# Altium schematic symbol library WE-LHMI.SchLib: 193 symbols (part 2 of 4)
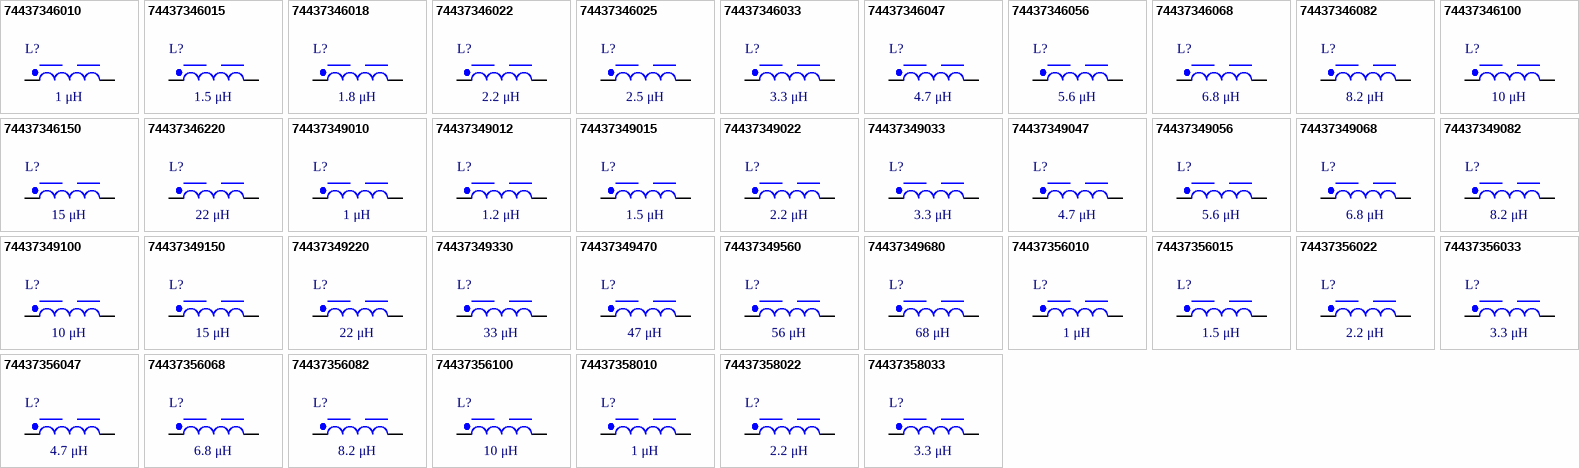
[diagram p5: symbols 74437346010 to 74437358033]

## 74437349015
designator L?, comment 1.5 μH
WE-LHMI SMT Power Inductor, size 7050, 1.5 μH, 11.3 A, 9 mΩ; Manufacturer Part Number: 74437349015; Manufacturer: Wurth Elektronik; Case/Size Code: 7050; DC Resistance Max: 9 mΩ; Performance Rated Current: 11.3 A; Saturation Current @ 10%: 9.7 A; Saturation Current @ 30%: 18.7 A; Self Resonant Frequency: 35 MHz; Category: Power Inductors; Match Code: WE-LHMI; ComponentLink1Description: Website Link; ComponentLink1URL: https://www.we-online.com/redexpert/article/74437349015?ad; ComponentLink2Description: Datasheet Link; ComponentLink2URL: https://www.we-online.com/redexpert/spec/74437349015?ad; Mount: Surface Mount; Min Operating Temperature: -40 °C; Max Operating Temperature: 125 °C; Packaging: Tape and Reel; Length: 7.3 mm; Width: 6.6 mm; Height: 4.8 mm; Inductance: 1.5 μH
footprint WE-LHMI_7050
simulation model 7050_74437349015_1.5u
pins: 1, 2

## 74437349022
designator L?, comment 2.2 μH
WE-LHMI SMT Power Inductor, size 7050, 2.2 μH, 9.9 A, 12 mΩ; Manufacturer Part Number: 74437349022; Manufacturer: Wurth Elektronik; Case/Size Code: 7050; DC Resistance Max: 12 mΩ; Performance Rated Current: 9.9 A; Saturation Current @ 10%: 10.5 A; Saturation Current @ 30%: 19.1 A; Self Resonant Frequency: 30 MHz; Category: Power Inductors; Match Code: WE-LHMI; ComponentLink1Description: Website Link; ComponentLink1URL: https://www.we-online.com/redexpert/article/74437349022?ad; ComponentLink2Description: Datasheet Link; ComponentLink2URL: https://www.we-online.com/redexpert/spec/74437349022?ad; Mount: Surface Mount; Min Operating Temperature: -40 °C; Max Operating Temperature: 125 °C; Packaging: Tape and Reel; Length: 7.3 mm; Width: 6.6 mm; Height: 4.8 mm; Inductance: 2.2 μH
footprint WE-LHMI_7050
simulation model 7050_74437349022_2.2u
pins: 1, 2

## 74437349033
designator L?, comment 3.3 μH
WE-LHMI SMT Power Inductor, size 7050, 3.3 μH, 7.5 A, 20.9 mΩ; Manufacturer Part Number: 74437349033; Manufacturer: Wurth Elektronik; Case/Size Code: 7050; DC Resistance Max: 20.9 mΩ; Performance Rated Current: 7.5 A; Saturation Current @ 10%: 7.9 A; Saturation Current @ 30%: 15.1 A; Self Resonant Frequency: 26 MHz; Category: Power Inductors; Match Code: WE-LHMI; ComponentLink1Description: Website Link; ComponentLink1URL: https://www.we-online.com/redexpert/article/74437349033?ad; ComponentLink2Description: Datasheet Link; ComponentLink2URL: https://www.we-online.com/redexpert/spec/74437349033?ad; Mount: Surface Mount; Min Operating Temperature: -40 °C; Max Operating Temperature: 125 °C; Packaging: Tape and Reel; Length: 7.3 mm; Width: 6.6 mm; Height: 4.8 mm; Inductance: 3.3 μH
footprint WE-LHMI_7050
simulation model 7050_74437349033_3.3u
pins: 1, 2

## 74437349047
designator L?, comment 4.7 μH
WE-LHMI SMT Power Inductor, size 7050, 4.7 μH, 6.2 A, 30.8 mΩ; Manufacturer Part Number: 74437349047; Manufacturer: Wurth Elektronik; Case/Size Code: 7050; DC Resistance Max: 30.8 mΩ; Performance Rated Current: 6.2 A; Saturation Current @ 10%: 7.5 A; Saturation Current @ 30%: 14.6 A; Self Resonant Frequency: 24 MHz; Category: Power Inductors; Match Code: WE-LHMI; ComponentLink1Description: Website Link; ComponentLink1URL: https://www.we-online.com/redexpert/article/74437349047?ad; ComponentLink2Description: Datasheet Link; ComponentLink2URL: https://www.we-online.com/redexpert/spec/74437349047?ad; Mount: Surface Mount; Min Operating Temperature: -40 °C; Max Operating Temperature: 125 °C; Packaging: Tape and Reel; Length: 7.3 mm; Width: 6.6 mm; Height: 4.8 mm; Inductance: 4.7 μH
footprint WE-LHMI_7050
simulation model 7050_74437349047_4.7u
pins: 1, 2

## 74437349056
designator L?, comment 5.6 μH
WE-LHMI SMT Power Inductor, size 7050, 5.6 μH, 4.9 A, 49 mΩ; Manufacturer Part Number: 74437349056; Manufacturer: Wurth Elektronik; Case/Size Code: 7050; DC Resistance Max: 49 mΩ; Performance Rated Current: 4.9 A; Saturation Current @ 10%: 6.6 A; Saturation Current @ 30%: 16.5 A; Self Resonant Frequency: 17 MHz; Category: Power Inductors; Match Code: WE-LHMI; ComponentLink1Description: Website Link; ComponentLink1URL: https://www.we-online.com/redexpert/article/74437349056?ad; ComponentLink2Description: Datasheet Link; ComponentLink2URL: https://www.we-online.com/redexpert/spec/74437349056?ad; Mount: Surface Mount; Min Operating Temperature: -40 °C; Max Operating Temperature: 125 °C; Packaging: Tape and Reel; Length: 7.3 mm; Width: 6.6 mm; Height: 4.8 mm; Inductance: 5.6 μH
footprint WE-LHMI_7050
simulation model 7050_74437349056_5.6u
pins: 1, 2

## 74437349068
designator L?, comment 6.8 μH
WE-LHMI SMT Power Inductor, size 7050, 6.8 μH, 4.8 A, 51.5 mΩ; Manufacturer Part Number: 74437349068; Manufacturer: Wurth Elektronik; Case/Size Code: 7050; DC Resistance Max: 51.5 mΩ; Performance Rated Current: 4.8 A; Saturation Current @ 10%: 6.3 A; Saturation Current @ 30%: 13.1 A; Self Resonant Frequency: 16 MHz; Category: Power Inductors; Match Code: WE-LHMI; ComponentLink1Description: Website Link; ComponentLink1URL: https://www.we-online.com/redexpert/article/74437349068?ad; ComponentLink2Description: Datasheet Link; ComponentLink2URL: https://www.we-online.com/redexpert/spec/74437349068?ad; Mount: Surface Mount; Min Operating Temperature: -40 °C; Max Operating Temperature: 125 °C; Packaging: Tape and Reel; Length: 7.3 mm; Width: 6.6 mm; Height: 4.8 mm; Inductance: 6.8 μH
footprint WE-LHMI_7050
simulation model 7050_74437349068_6.8u
pins: 1, 2

## 74437349082
designator L?, comment 8.2 μH
WE-LHMI SMT Power Inductor, size 7050, 8.2 μH, 4.35 A, 63 mΩ; Manufacturer Part Number: 74437349082; Manufacturer: Wurth Elektronik; Case/Size Code: 7050; DC Resistance Max: 63 mΩ; Performance Rated Current: 4.35 A; Saturation Current @ 10%: 6 A; Saturation Current @ 30%: 12.2 A; Self Resonant Frequency: 15 MHz; Category: Power Inductors; Match Code: WE-LHMI; ComponentLink1Description: Website Link; ComponentLink1URL: https://www.we-online.com/redexpert/article/74437349082?ad; ComponentLink2Description: Datasheet Link; ComponentLink2URL: https://www.we-online.com/redexpert/spec/74437349082?ad; Mount: Surface Mount; Min Operating Temperature: -40 °C; Max Operating Temperature: 125 °C; Packaging: Tape and Reel; Length: 7.3 mm; Width: 6.6 mm; Height: 4.8 mm; Inductance: 8.2 μH
footprint WE-LHMI_7050
simulation model 7050_74437349082_8.2u
pins: 1, 2

## 74437349100
designator L?, comment 10 μH
WE-LHMI SMT Power Inductor, size 7050, 10 μH, 4.05 A, 69 mΩ; Manufacturer Part Number: 74437349100; Manufacturer: Wurth Elektronik; Case/Size Code: 7050; DC Resistance Max: 69 mΩ; Performance Rated Current: 4.05 A; Saturation Current @ 10%: 5.6 A; Saturation Current @ 30%: 10.5 A; Self Resonant Frequency: 12 MHz; Category: Power Inductors; Match Code: WE-LHMI; ComponentLink1Description: Website Link; ComponentLink1URL: https://www.we-online.com/redexpert/article/74437349100?ad; ComponentLink2Description: Datasheet Link; ComponentLink2URL: https://www.we-online.com/redexpert/spec/74437349100?ad; Mount: Surface Mount; Min Operating Temperature: -40 °C; Max Operating Temperature: 125 °C; Packaging: Tape and Reel; Length: 7.3 mm; Width: 6.6 mm; Height: 4.8 mm; Inductance: 10 μH
footprint WE-LHMI_7050
simulation model 7050_74437349100_10u
pins: 1, 2

## 74437349150
designator L?, comment 15 μH
WE-LHMI SMT Power Inductor, size 7050, 15 μH, 3.6 A, 92 mΩ; Manufacturer Part Number: 74437349150; Manufacturer: Wurth Elektronik; Case/Size Code: 7050; DC Resistance Max: 92 mΩ; Performance Rated Current: 3.6 A; Saturation Current @ 10%: 3.5 A; Saturation Current @ 30%: 7.2 A; Self Resonant Frequency: 10 MHz; Category: Power Inductors; Match Code: WE-LHMI; ComponentLink1Description: Website Link; ComponentLink1URL: https://www.we-online.com/redexpert/article/74437349150?ad; ComponentLink2Description: Datasheet Link; ComponentLink2URL: https://www.we-online.com/redexpert/spec/74437349150?ad; Mount: Surface Mount; Min Operating Temperature: -40 °C; Max Operating Temperature: 125 °C; Packaging: Tape and Reel; Length: 7.3 mm; Width: 6.6 mm; Height: 4.8 mm; Inductance: 15 μH
footprint WE-LHMI_7050
simulation model 7050_74437349150_15u
pins: 1, 2

## 74437349220
designator L?, comment 22 μH
WE-LHMI SMT Power Inductor, size 7050, 22 μH, 2.75 A, 170 mΩ; Manufacturer Part Number: 74437349220; Manufacturer: Wurth Elektronik; Case/Size Code: 7050; DC Resistance Max: 170 mΩ; Performance Rated Current: 2.75 A; Saturation Current @ 10%: 4.15 A; Saturation Current @ 30%: 8.5 A; Self Resonant Frequency: 8 MHz; Category: Power Inductors; Match Code: WE-LHMI; ComponentLink1Description: Website Link; ComponentLink1URL: https://www.we-online.com/redexpert/article/74437349220?ad; ComponentLink2Description: Datasheet Link; ComponentLink2URL: https://www.we-online.com/redexpert/spec/74437349220?ad; Mount: Surface Mount; Min Operating Temperature: -40 °C; Max Operating Temperature: 125 °C; Packaging: Tape and Reel; Length: 7.3 mm; Width: 6.6 mm; Height: 4.8 mm; Inductance: 22 μH
footprint WE-LHMI_7050
simulation model 7050_74437349220_22u
pins: 1, 2

## 74437349330
designator L?, comment 33 μH
WE-LHMI SMT Power Inductor, size 7050, 33 μH, 2.45 A, 200 mΩ; Manufacturer Part Number: 74437349330; Manufacturer: Wurth Elektronik; Case/Size Code: 7050; DC Resistance Max: 200 mΩ; Performance Rated Current: 2.45 A; Saturation Current @ 10%: 2.6 A; Saturation Current @ 30%: 4.75 A; Self Resonant Frequency: 7.5 MHz; Category: Power Inductors; Match Code: WE-LHMI; ComponentLink1Description: Website Link; ComponentLink1URL: https://www.we-online.com/redexpert/article/74437349330?ad; ComponentLink2Description: Datasheet Link; ComponentLink2URL: https://www.we-online.com/redexpert/spec/74437349330?ad; Mount: Surface Mount; Min Operating Temperature: -40 °C; Max Operating Temperature: 125 °C; Packaging: Tape and Reel; Length: 7.3 mm; Width: 6.6 mm; Height: 4.8 mm; Inductance: 33 μH
footprint WE-LHMI_7050
simulation model 7050_74437349330_33u
pins: 1, 2

## 74437349470
designator L?, comment 47 μH
WE-LHMI SMT Power Inductor, size 7050, 47 μH, 1.9 A, 330 mΩ; Manufacturer Part Number: 74437349470; Manufacturer: Wurth Elektronik; Case/Size Code: 7050; DC Resistance Max: 330 mΩ; Performance Rated Current: 1.9 A; Saturation Current @ 10%: 1.8 A; Saturation Current @ 30%: 3.4 A; Self Resonant Frequency: 7.3 MHz; Category: Power Inductors; Match Code: WE-LHMI; ComponentLink1Description: Website Link; ComponentLink1URL: https://www.we-online.com/redexpert/article/74437349470?ad; ComponentLink2Description: Datasheet Link; ComponentLink2URL: https://www.we-online.com/redexpert/spec/74437349470?ad; Mount: Surface Mount; Min Operating Temperature: -40 °C; Max Operating Temperature: 125 °C; Packaging: Tape and Reel; Length: 7.3 mm; Width: 6.6 mm; Height: 4.8 mm; Inductance: 47 μH
footprint WE-LHMI_7050
simulation model 7050_74437349470_47u
pins: 1, 2

## 74437349560
designator L?, comment 56 μH
WE-LHMI SMT Power Inductor, size 7050, 56 μH, 1.75 A, 396 mΩ; Manufacturer Part Number: 74437349560; Manufacturer: Wurth Elektronik; Case/Size Code: 7050; DC Resistance Max: 396 mΩ; Performance Rated Current: 1.75 A; Saturation Current @ 10%: 1.4 A; Saturation Current @ 30%: 2.7 A; Self Resonant Frequency: 6 MHz; Category: Power Inductors; Match Code: WE-LHMI; ComponentLink1Description: Website Link; ComponentLink1URL: https://www.we-online.com/redexpert/article/74437349560?ad; ComponentLink2Description: Datasheet Link; ComponentLink2URL: https://www.we-online.com/redexpert/spec/74437349560?ad; Mount: Surface Mount; Min Operating Temperature: -40 °C; Max Operating Temperature: 125 °C; Packaging: Tape and Reel; Length: 7.3 mm; Width: 6.6 mm; Height: 4.8 mm; Inductance: 56 μH
footprint WE-LHMI_7050
simulation model 7050_74437349560_56u
pins: 1, 2

## 74437349680
designator L?, comment 68 μH
WE-LHMI SMT Power Inductor, size 7050, 68 μH, 1.65 A, 445 mΩ; Manufacturer Part Number: 74437349680; Manufacturer: Wurth Elektronik; Case/Size Code: 7050; DC Resistance Max: 445 mΩ; Performance Rated Current: 1.65 A; Saturation Current @ 10%: 1.45 A; Saturation Current @ 30%: 3.8 A; Self Resonant Frequency: 3.5 MHz; Category: Power Inductors; Match Code: WE-LHMI; ComponentLink1Description: Website Link; ComponentLink1URL: https://www.we-online.com/redexpert/article/74437349680?ad; ComponentLink2Description: Datasheet Link; ComponentLink2URL: https://www.we-online.com/redexpert/spec/74437349680?ad; Mount: Surface Mount; Min Operating Temperature: -40 °C; Max Operating Temperature: 125 °C; Packaging: Tape and Reel; Length: 7.3 mm; Width: 6.6 mm; Height: 4.8 mm; Inductance: 68 μH
footprint WE-LHMI_7050
simulation model 7050_74437349680_68u
pins: 1, 2

## 74437356010
designator L?, comment 1 μH
WE-LHMI SMT Power Inductor, size 8030, 1 μH, 15.7 A, 8.35 mΩ; Manufacturer Part Number: 74437356010; Manufacturer: Wurth Elektronik; Case/Size Code: 8030; DC Resistance Max: 8.35 mΩ; Performance Rated Current: 15.7 A; Saturation Current @ 10%: 15.8 A; Saturation Current @ 30%: 34.2 A; Self Resonant Frequency: 44 MHz; Category: Power Inductors; Match Code: WE-LHMI; ComponentLink1Description: Website Link; ComponentLink1URL: https://www.we-online.com/redexpert/article/74437356010?ad; ComponentLink2Description: Datasheet Link; ComponentLink2URL: https://www.we-online.com/redexpert/spec/74437356010?ad; Mount: Surface Mount; Min Operating Temperature: -40 °C; Max Operating Temperature: 125 °C; Packaging: Tape and Reel; Length: 9.7 mm; Width: 8.5 mm; Height: 3 mm; Inductance: 1 μH
footprint WE-LHMI_8030
simulation model 8030_74437356010_1u
pins: 1, 2

## 74437356015
designator L?, comment 1.5 μH
WE-LHMI SMT Power Inductor, size 8030, 1.5 μH, 12.2 A, 13.3 mΩ; Manufacturer Part Number: 74437356015; Manufacturer: Wurth Elektronik; Case/Size Code: 8030; DC Resistance Max: 13.3 mΩ; Performance Rated Current: 12.2 A; Saturation Current @ 10%: 13.5 A; Saturation Current @ 30%: 27.2 A; Self Resonant Frequency: 32 MHz; Category: Power Inductors; Match Code: WE-LHMI; ComponentLink1Description: Website Link; ComponentLink1URL: https://www.we-online.com/redexpert/article/74437356015?ad; ComponentLink2Description: Datasheet Link; ComponentLink2URL: https://www.we-online.com/redexpert/spec/74437356015?ad; Mount: Surface Mount; Min Operating Temperature: -40 °C; Max Operating Temperature: 125 °C; Packaging: Tape and Reel; Length: 9.7 mm; Width: 8.5 mm; Height: 3 mm; Inductance: 1.5 μH
footprint WE-LHMI_8030
simulation model 8030_74437356015_1.5u
pins: 1, 2

## 74437356022
designator L?, comment 2.2 μH
WE-LHMI SMT Power Inductor, size 8030, 2.2 μH, 9.5 A, 20.3 mΩ; Manufacturer Part Number: 74437356022; Manufacturer: Wurth Elektronik; Case/Size Code: 8030; DC Resistance Max: 20.3 mΩ; Performance Rated Current: 9.5 A; Saturation Current @ 10%: 10 A; Saturation Current @ 30%: 19.6 A; Self Resonant Frequency: 24 MHz; Category: Power Inductors; Match Code: WE-LHMI; ComponentLink1Description: Website Link; ComponentLink1URL: https://www.we-online.com/redexpert/article/74437356022?ad; ComponentLink2Description: Datasheet Link; ComponentLink2URL: https://www.we-online.com/redexpert/spec/74437356022?ad; Mount: Surface Mount; Min Operating Temperature: -40 °C; Max Operating Temperature: 125 °C; Packaging: Tape and Reel; Length: 9.7 mm; Width: 8.5 mm; Height: 3 mm; Inductance: 2.2 μH
footprint WE-LHMI_8030
simulation model 8030_74437356022_2.2u
pins: 1, 2

## 74437356033
designator L?, comment 3.3 μH
WE-LHMI SMT Power Inductor, size 8030, 3.3 μH, 8 A, 27.4 mΩ; Manufacturer Part Number: 74437356033; Manufacturer: Wurth Elektronik; Case/Size Code: 8030; DC Resistance Max: 27.4 mΩ; Performance Rated Current: 8 A; Saturation Current @ 10%: 8.8 A; Saturation Current @ 30%: 16.1 A; Self Resonant Frequency: 19 MHz; Category: Power Inductors; Match Code: WE-LHMI; ComponentLink1Description: Website Link; ComponentLink1URL: https://www.we-online.com/redexpert/article/74437356033?ad; ComponentLink2Description: Datasheet Link; ComponentLink2URL: https://www.we-online.com/redexpert/spec/74437356033?ad; Mount: Surface Mount; Min Operating Temperature: -40 °C; Max Operating Temperature: 125 °C; Packaging: Tape and Reel; Length: 9.7 mm; Width: 8.5 mm; Height: 3 mm; Inductance: 3.3 μH
footprint WE-LHMI_8030
simulation model 8030_74437356033_3.3u
pins: 1, 2

## 74437356047
designator L?, comment 4.7 μH
WE-LHMI SMT Power Inductor, size 8030, 4.7 μH, 6.7 A, 34.2 mΩ; Manufacturer Part Number: 74437356047; Manufacturer: Wurth Elektronik; Case/Size Code: 8030; DC Resistance Max: 34.2 mΩ; Performance Rated Current: 6.7 A; Saturation Current @ 10%: 8.1 A; Saturation Current @ 30%: 15.2 A; Self Resonant Frequency: 16 MHz; Category: Power Inductors; Match Code: WE-LHMI; ComponentLink1Description: Website Link; ComponentLink1URL: https://www.we-online.com/redexpert/article/74437356047?ad; ComponentLink2Description: Datasheet Link; ComponentLink2URL: https://www.we-online.com/redexpert/spec/74437356047?ad; Mount: Surface Mount; Min Operating Temperature: -40 °C; Max Operating Temperature: 125 °C; Packaging: Tape and Reel; Length: 9.7 mm; Width: 8.5 mm; Height: 3 mm; Inductance: 4.7 μH
footprint WE-LHMI_8030
simulation model 8030_74437356047_4.7u
pins: 1, 2

## 74437356068
designator L?, comment 6.8 μH
WE-LHMI SMT Power Inductor, size 8030, 6.8 μH, 5.8 A, 49.3 mΩ; Manufacturer Part Number: 74437356068; Manufacturer: Wurth Elektronik; Case/Size Code: 8030; DC Resistance Max: 49.3 mΩ; Performance Rated Current: 5.8 A; Saturation Current @ 10%: 6.9 A; Saturation Current @ 30%: 14.2 A; Self Resonant Frequency: 14 MHz; Category: Power Inductors; Match Code: WE-LHMI; ComponentLink1Description: Website Link; ComponentLink1URL: https://www.we-online.com/redexpert/article/74437356068?ad; ComponentLink2Description: Datasheet Link; ComponentLink2URL: https://www.we-online.com/redexpert/spec/74437356068?ad; Mount: Surface Mount; Min Operating Temperature: -40 °C; Max Operating Temperature: 125 °C; Packaging: Tape and Reel; Length: 9.7 mm; Width: 8.5 mm; Height: 3 mm; Inductance: 6.8 μH
footprint WE-LHMI_8030
simulation model 8030_74437356068_6.8u
pins: 1, 2

## 74437356082
designator L?, comment 8.2 μH
WE-LHMI SMT Power Inductor, size 8030, 8.2 μH, 4.6 A, 59.3 mΩ; Manufacturer Part Number: 74437356082; Manufacturer: Wurth Elektronik; Case/Size Code: 8030; DC Resistance Max: 59.3 mΩ; Performance Rated Current: 4.6 A; Saturation Current @ 10%: 6.3 A; Saturation Current @ 30%: 14 A; Self Resonant Frequency: 11 MHz; Category: Power Inductors; Match Code: WE-LHMI; ComponentLink1Description: Website Link; ComponentLink1URL: https://www.we-online.com/redexpert/article/74437356082?ad; ComponentLink2Description: Datasheet Link; ComponentLink2URL: https://www.we-online.com/redexpert/spec/74437356082?ad; Mount: Surface Mount; Min Operating Temperature: -40 °C; Max Operating Temperature: 125 °C; Packaging: Tape and Reel; Length: 9.7 mm; Width: 8.5 mm; Height: 3 mm; Inductance: 8.2 μH
footprint WE-LHMI_8030
simulation model 8030_74437356082_8.2u
pins: 1, 2

## 74437356100
designator L?, comment 10 μH
WE-LHMI SMT Power Inductor, size 8030, 10 μH, 4.45 A, 71.2 mΩ; Manufacturer Part Number: 74437356100; Manufacturer: Wurth Elektronik; Case/Size Code: 8030; DC Resistance Max: 71.2 mΩ; Performance Rated Current: 4.45 A; Saturation Current @ 10%: 6.2 A; Saturation Current @ 30%: 13.4 A; Self Resonant Frequency: 10 MHz; Category: Power Inductors; Match Code: WE-LHMI; ComponentLink1Description: Website Link; ComponentLink1URL: https://www.we-online.com/redexpert/article/74437356100?ad; ComponentLink2Description: Datasheet Link; ComponentLink2URL: https://www.we-online.com/redexpert/spec/74437356100?ad; Mount: Surface Mount; Min Operating Temperature: -40 °C; Max Operating Temperature: 125 °C; Packaging: Tape and Reel; Length: 9.7 mm; Width: 8.5 mm; Height: 3 mm; Inductance: 10 μH
footprint WE-LHMI_8030
simulation model 8030_74437356100_10u
pins: 1, 2

## 74437358010
designator L?, comment 1 μH
WE-LHMI SMT Power Inductor, size 8040, 1 μH, 18.6 A, 4.63 mΩ; Manufacturer Part Number: 74437358010; Manufacturer: Wurth Elektronik; Case/Size Code: 8040; DC Resistance Max: 4.63 mΩ; Performance Rated Current: 18.6 A; Saturation Current @ 10%: 20.6 A; Saturation Current @ 30%: 43.1 A; Self Resonant Frequency: 42 MHz; Category: Power Inductors; Match Code: WE-LHMI; ComponentLink1Description: Website Link; ComponentLink1URL: https://www.we-online.com/redexpert/article/74437358010?ad; ComponentLink2Description: Datasheet Link; ComponentLink2URL: https://www.we-online.com/redexpert/spec/74437358010?ad; Mount: Surface Mount; Min Operating Temperature: -40 °C; Max Operating Temperature: 125 °C; Packaging: Tape and Reel; Length: 9.7 mm; Width: 8.5 mm; Height: 4 mm; Inductance: 1 μH
footprint WE-LHMI_8040
simulation model 8040_74437358010_1u
pins: 1, 2

## 74437358022
designator L?, comment 2.2 μH
WE-LHMI SMT Power Inductor, size 8040, 2.2 μH, 12 A, 9.41 mΩ; Manufacturer Part Number: 74437358022; Manufacturer: Wurth Elektronik; Case/Size Code: 8040; DC Resistance Max: 9.41 mΩ; Performance Rated Current: 12 A; Saturation Current @ 10%: 17.2 A; Saturation Current @ 30%: 36.8 A; Self Resonant Frequency: 29 MHz; Category: Power Inductors; Match Code: WE-LHMI; ComponentLink1Description: Website Link; ComponentLink1URL: https://www.we-online.com/redexpert/article/74437358022?ad; ComponentLink2Description: Datasheet Link; ComponentLink2URL: https://www.we-online.com/redexpert/spec/74437358022?ad; Mount: Surface Mount; Min Operating Temperature: -40 °C; Max Operating Temperature: 125 °C; Packaging: Tape and Reel; Length: 9.7 mm; Width: 8.5 mm; Height: 4 mm; Inductance: 2.2 μH
footprint WE-LHMI_8040
simulation model 8040_74437358022_2.2u
pins: 1, 2

## 74437358033
designator L?, comment 3.3 μH
WE-LHMI SMT Power Inductor, size 8040, 3.3 μH, 10 A, 14.9 mΩ; Manufacturer Part Number: 74437358033; Manufacturer: Wurth Elektronik; Case/Size Code: 8040; DC Resistance Max: 14.9 mΩ; Performance Rated Current: 10 A; Saturation Current @ 10%: 12.4 A; Saturation Current @ 30%: 27 A; Self Resonant Frequency: 20 MHz; Category: Power Inductors; Match Code: WE-LHMI; ComponentLink1Description: Website Link; ComponentLink1URL: https://www.we-online.com/redexpert/article/74437358033?ad; ComponentLink2Description: Datasheet Link; ComponentLink2URL: https://www.we-online.com/redexpert/spec/74437358033?ad; Mount: Surface Mount; Min Operating Temperature: -40 °C; Max Operating Temperature: 125 °C; Packaging: Tape and Reel; Length: 9.7 mm; Width: 8.5 mm; Height: 4 mm; Inductance: 3.3 μH
footprint WE-LHMI_8040
simulation model 8040_74437358033_3.3u
pins: 1, 2

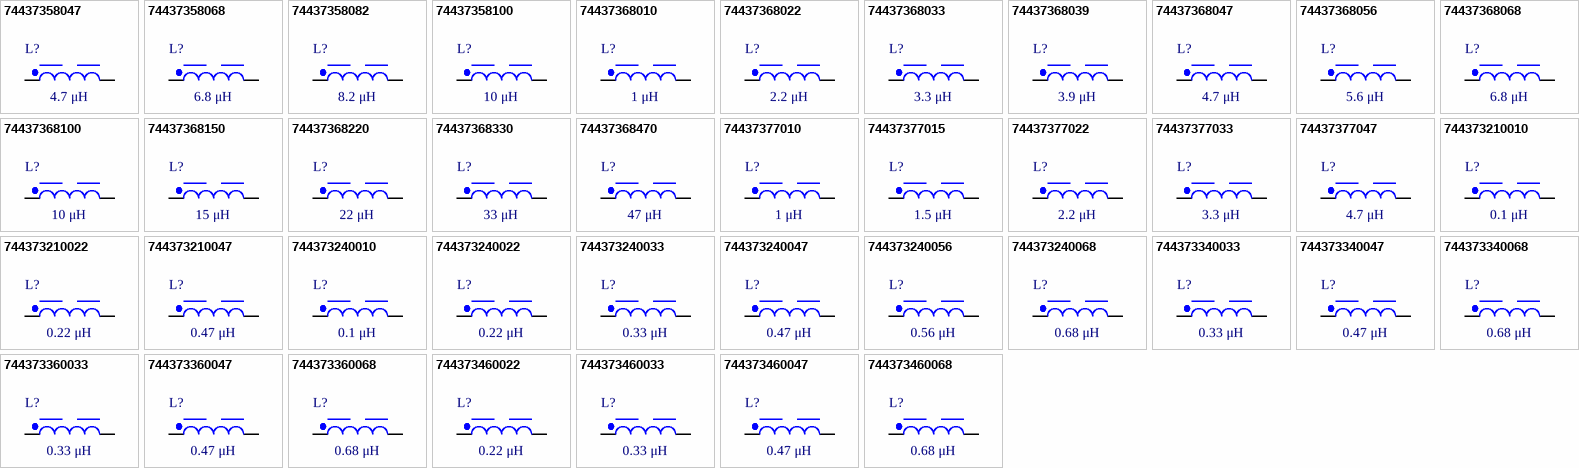
[diagram p2: symbols 74437358047 to 744373460068]

## 74437358047
designator L?, comment 4.7 μH
WE-LHMI SMT Power Inductor, size 8040, 4.7 μH, 7.9 A, 22.6 mΩ; Manufacturer Part Number: 74437358047; Manufacturer: Wurth Elektronik; Case/Size Code: 8040; DC Resistance Max: 22.6 mΩ; Performance Rated Current: 7.9 A; Saturation Current @ 10%: 10.8 A; Saturation Current @ 30%: 22.9 A; Self Resonant Frequency: 19 MHz; Category: Power Inductors; Match Code: WE-LHMI; ComponentLink1Description: Website Link; ComponentLink1URL: https://www.we-online.com/redexpert/article/74437358047?ad; ComponentLink2Description: Datasheet Link; ComponentLink2URL: https://www.we-online.com/redexpert/spec/74437358047?ad; Mount: Surface Mount; Min Operating Temperature: -40 °C; Max Operating Temperature: 125 °C; Packaging: Tape and Reel; Length: 9.7 mm; Width: 8.5 mm; Height: 4 mm; Inductance: 4.7 μH
footprint WE-LHMI_8040
simulation model 8040_74437358047_4.7u
pins: 1, 2

## 74437358068
designator L?, comment 6.8 μH
WE-LHMI SMT Power Inductor, size 8040, 6.8 μH, 6.4 A, 33.4 mΩ; Manufacturer Part Number: 74437358068; Manufacturer: Wurth Elektronik; Case/Size Code: 8040; DC Resistance Max: 33.4 mΩ; Performance Rated Current: 6.4 A; Saturation Current @ 10%: 8.5 A; Saturation Current @ 30%: 17.7 A; Self Resonant Frequency: 12 MHz; Category: Power Inductors; Match Code: WE-LHMI; ComponentLink1Description: Website Link; ComponentLink1URL: https://www.we-online.com/redexpert/article/74437358068?ad; ComponentLink2Description: Datasheet Link; ComponentLink2URL: https://www.we-online.com/redexpert/spec/74437358068?ad; Mount: Surface Mount; Min Operating Temperature: -40 °C; Max Operating Temperature: 125 °C; Packaging: Tape and Reel; Length: 9.7 mm; Width: 8.5 mm; Height: 4 mm; Inductance: 6.8 μH
footprint WE-LHMI_8040
simulation model 8040_74437358068_6.8u
pins: 1, 2

## 74437358082
designator L?, comment 8.2 μH
WE-LHMI SMT Power Inductor, size 8040, 8.2 μH, 5.45 A, 45 mΩ; Manufacturer Part Number: 74437358082; Manufacturer: Wurth Elektronik; Case/Size Code: 8040; DC Resistance Max: 45 mΩ; Performance Rated Current: 5.45 A; Saturation Current @ 10%: 8.6 A; Saturation Current @ 30%: 16.6 A; Self Resonant Frequency: 10 MHz; Category: Power Inductors; Match Code: WE-LHMI; ComponentLink1Description: Website Link; ComponentLink1URL: https://www.we-online.com/redexpert/article/74437358082?ad; ComponentLink2Description: Datasheet Link; ComponentLink2URL: https://www.we-online.com/redexpert/spec/74437358082?ad; Mount: Surface Mount; Min Operating Temperature: -40 °C; Max Operating Temperature: 125 °C; Packaging: Tape and Reel; Length: 9.7 mm; Width: 8.5 mm; Height: 4 mm; Inductance: 8.2 μH
footprint WE-LHMI_8040
simulation model 8040_74437358082_8.2u
pins: 1, 2

## 74437358100
designator L?, comment 10 μH
WE-LHMI SMT Power Inductor, size 8040, 10 μH, 5.05 A, 51.8 mΩ; Manufacturer Part Number: 74437358100; Manufacturer: Wurth Elektronik; Case/Size Code: 8040; DC Resistance Max: 51.8 mΩ; Performance Rated Current: 5.05 A; Saturation Current @ 10%: 8.3 A; Saturation Current @ 30%: 15.9 A; Self Resonant Frequency: 9 MHz; Category: Power Inductors; Match Code: WE-LHMI; ComponentLink1Description: Website Link; ComponentLink1URL: https://www.we-online.com/redexpert/article/74437358100?ad; ComponentLink2Description: Datasheet Link; ComponentLink2URL: https://www.we-online.com/redexpert/spec/74437358100?ad; Mount: Surface Mount; Min Operating Temperature: -40 °C; Max Operating Temperature: 125 °C; Packaging: Tape and Reel; Length: 9.7 mm; Width: 8.5 mm; Height: 4 mm; Inductance: 10 μH
footprint WE-LHMI_8040
simulation model 8040_74437358100_10u
pins: 1, 2

## 74437368010
designator L?, comment 1 μH
WE-LHMI SMT Power Inductor, size 1040, 1 μH, 21.3 A, 3.3 mΩ; Manufacturer Part Number: 74437368010; Manufacturer: Wurth Elektronik; Case/Size Code: 1040; DC Resistance Max: 3.3 mΩ; Performance Rated Current: 21.3 A; Saturation Current @ 10%: 22.7 A; Saturation Current @ 30%: 48.3 A; Self Resonant Frequency: 45 MHz; Category: Power Inductors; Match Code: WE-LHMI; ComponentLink1Description: Website Link; ComponentLink1URL: https://www.we-online.com/redexpert/article/74437368010?ad; ComponentLink2Description: Datasheet Link; ComponentLink2URL: https://www.we-online.com/redexpert/spec/74437368010?ad; Mount: Surface Mount; Min Operating Temperature: -40 °C; Max Operating Temperature: 125 °C; Packaging: Tape and Reel; Length: 11 mm; Width: 10 mm; Height: 3.8 mm; Inductance: 1 μH
footprint WE-LHMI_1040
simulation model 1040_74437368010_1u
pins: 1, 2

## 74437368022
designator L?, comment 2.2 μH
WE-LHMI SMT Power Inductor, size 1040, 2.2 μH, 14.3 A, 7 mΩ; Manufacturer Part Number: 74437368022; Manufacturer: Wurth Elektronik; Case/Size Code: 1040; DC Resistance Max: 7 mΩ; Performance Rated Current: 14.3 A; Saturation Current @ 10%: 18.1 A; Saturation Current @ 30%: 38.7 A; Self Resonant Frequency: 27 MHz; Category: Power Inductors; Match Code: WE-LHMI; ComponentLink1Description: Website Link; ComponentLink1URL: https://www.we-online.com/redexpert/article/74437368022?ad; ComponentLink2Description: Datasheet Link; ComponentLink2URL: https://www.we-online.com/redexpert/spec/74437368022?ad; Mount: Surface Mount; Min Operating Temperature: -40 °C; Max Operating Temperature: 125 °C; Packaging: Tape and Reel; Length: 11 mm; Width: 10 mm; Height: 3.8 mm; Inductance: 2.2 μH
footprint WE-LHMI_1040
simulation model 1040_74437368022_2.2u
pins: 1, 2

## 74437368033
designator L?, comment 3.3 μH
WE-LHMI SMT Power Inductor, size 1040, 3.3 μH, 11.1 A, 11.8 mΩ; Manufacturer Part Number: 74437368033; Manufacturer: Wurth Elektronik; Case/Size Code: 1040; DC Resistance Max: 11.8 mΩ; Performance Rated Current: 11.1 A; Saturation Current @ 10%: 15.6 A; Saturation Current @ 30%: 31.2 A; Self Resonant Frequency: 22 MHz; Category: Power Inductors; Match Code: WE-LHMI; ComponentLink1Description: Website Link; ComponentLink1URL: https://www.we-online.com/redexpert/article/74437368033?ad; ComponentLink2Description: Datasheet Link; ComponentLink2URL: https://www.we-online.com/redexpert/spec/74437368033?ad; Mount: Surface Mount; Min Operating Temperature: -40 °C; Max Operating Temperature: 125 °C; Packaging: Tape and Reel; Length: 11 mm; Width: 10 mm; Height: 3.8 mm; Inductance: 3.3 μH
footprint WE-LHMI_1040
simulation model 1040_74437368033_3.3u
pins: 1, 2

## 74437368039
designator L?, comment 3.9 μH
WE-LHMI SMT Power Inductor, size 1040, 3.9 μH, 10.3 A, 14.5 mΩ; Manufacturer Part Number: 74437368039; Manufacturer: Wurth Elektronik; Case/Size Code: 1040; DC Resistance Max: 14.5 mΩ; Performance Rated Current: 10.3 A; Saturation Current @ 10%: 12 A; Saturation Current @ 30%: 26.8 A; Self Resonant Frequency: 17 MHz; Category: Power Inductors; Match Code: WE-LHMI; ComponentLink1Description: Website Link; ComponentLink1URL: https://www.we-online.com/redexpert/article/74437368039?ad; ComponentLink2Description: Datasheet Link; ComponentLink2URL: https://www.we-online.com/redexpert/spec/74437368039?ad; Mount: Surface Mount; Min Operating Temperature: -40 °C; Max Operating Temperature: 125 °C; Packaging: Tape and Reel; Length: 11 mm; Width: 10 mm; Height: 3.8 mm; Inductance: 3.9 μH
footprint WE-LHMI_1040
simulation model 1040_74437368039_3.9u
pins: 1, 2

## 74437368047
designator L?, comment 4.7 μH
WE-LHMI SMT Power Inductor, size 1040, 4.7 μH, 9.4 A, 15.5 mΩ; Manufacturer Part Number: 74437368047; Manufacturer: Wurth Elektronik; Case/Size Code: 1040; DC Resistance Max: 15.5 mΩ; Performance Rated Current: 9.4 A; Saturation Current @ 10%: 11.7 A; Saturation Current @ 30%: 26 A; Self Resonant Frequency: 16 MHz; Category: Power Inductors; Match Code: WE-LHMI; ComponentLink1Description: Website Link; ComponentLink1URL: https://www.we-online.com/redexpert/article/74437368047?ad; ComponentLink2Description: Datasheet Link; ComponentLink2URL: https://www.we-online.com/redexpert/spec/74437368047?ad; Mount: Surface Mount; Min Operating Temperature: -40 °C; Max Operating Temperature: 125 °C; Packaging: Tape and Reel; Length: 11 mm; Width: 10 mm; Height: 3.8 mm; Inductance: 4.7 μH
footprint WE-LHMI_1040
simulation model 1040_74437368047_4.7u
pins: 1, 2

## 74437368056
designator L?, comment 5.6 μH
WE-LHMI SMT Power Inductor, size 1040, 5.6 μH, 8.7 A, 19.3 mΩ; Manufacturer Part Number: 74437368056; Manufacturer: Wurth Elektronik; Case/Size Code: 1040; DC Resistance Max: 19.3 mΩ; Performance Rated Current: 8.7 A; Saturation Current @ 10%: 9.4 A; Saturation Current @ 30%: 19.4 A; Self Resonant Frequency: 13 MHz; Category: Power Inductors; Match Code: WE-LHMI; ComponentLink1Description: Website Link; ComponentLink1URL: https://www.we-online.com/redexpert/article/74437368056?ad; ComponentLink2Description: Datasheet Link; ComponentLink2URL: https://www.we-online.com/redexpert/spec/74437368056?ad; Mount: Surface Mount; Min Operating Temperature: -40 °C; Max Operating Temperature: 125 °C; Packaging: Tape and Reel; Length: 11 mm; Width: 10 mm; Height: 3.8 mm; Inductance: 5.6 μH
footprint WE-LHMI_1040
simulation model 1040_74437368056_5.6u
pins: 1, 2

## 74437368068
designator L?, comment 6.8 μH
WE-LHMI SMT Power Inductor, size 1040, 6.8 μH, 8.6 A, 23.3 mΩ; Manufacturer Part Number: 74437368068; Manufacturer: Wurth Elektronik; Case/Size Code: 1040; DC Resistance Max: 23.3 mΩ; Performance Rated Current: 8.6 A; Saturation Current @ 10%: 8 A; Saturation Current @ 30%: 17.4 A; Self Resonant Frequency: 13 MHz; Category: Power Inductors; Match Code: WE-LHMI; ComponentLink1Description: Website Link; ComponentLink1URL: https://www.we-online.com/redexpert/article/74437368068?ad; ComponentLink2Description: Datasheet Link; ComponentLink2URL: https://www.we-online.com/redexpert/spec/74437368068?ad; Mount: Surface Mount; Min Operating Temperature: -40 °C; Max Operating Temperature: 125 °C; Packaging: Tape and Reel; Length: 11 mm; Width: 10 mm; Height: 3.8 mm; Inductance: 6.8 μH
footprint WE-LHMI_1040
simulation model 1040_74437368068_6.8u
pins: 1, 2

## 74437368100
designator L?, comment 10 μH
WE-LHMI SMT Power Inductor, size 1040, 10 μH, 7 A, 30 mΩ; Manufacturer Part Number: 74437368100; Manufacturer: Wurth Elektronik; Case/Size Code: 1040; DC Resistance Max: 30 mΩ; Performance Rated Current: 7 A; Saturation Current @ 10%: 7.9 A; Saturation Current @ 30%: 16.8 A; Self Resonant Frequency: 12 MHz; Category: Power Inductors; Match Code: WE-LHMI; ComponentLink1Description: Website Link; ComponentLink1URL: https://www.we-online.com/redexpert/article/74437368100?ad; ComponentLink2Description: Datasheet Link; ComponentLink2URL: https://www.we-online.com/redexpert/spec/74437368100?ad; Mount: Surface Mount; Min Operating Temperature: -40 °C; Max Operating Temperature: 125 °C; Packaging: Tape and Reel; Length: 11 mm; Width: 10 mm; Height: 3.8 mm; Inductance: 10 μH
footprint WE-LHMI_1040
simulation model 1040_74437368100_10u
pins: 1, 2

## 74437368150
designator L?, comment 15 μH
WE-LHMI SMT Power Inductor, size 1040, 15 μH, 5.7 A, 45 mΩ; Manufacturer Part Number: 74437368150; Manufacturer: Wurth Elektronik; Case/Size Code: 1040; DC Resistance Max: 45 mΩ; Performance Rated Current: 5.7 A; Saturation Current @ 10%: 5.55 A; Saturation Current @ 30%: 11.8 A; Self Resonant Frequency: 8 MHz; Category: Power Inductors; Match Code: WE-LHMI; ComponentLink1Description: Website Link; ComponentLink1URL: https://www.we-online.com/redexpert/article/74437368150?ad; ComponentLink2Description: Datasheet Link; ComponentLink2URL: https://www.we-online.com/redexpert/spec/74437368150?ad; Mount: Surface Mount; Min Operating Temperature: -40 °C; Max Operating Temperature: 125 °C; Packaging: Tape and Reel; Length: 11 mm; Width: 10 mm; Height: 3.8 mm; Inductance: 15 μH
footprint WE-LHMI_1040
simulation model 1040_74437368150_15u
pins: 1, 2

## 74437368220
designator L?, comment 22 μH
WE-LHMI SMT Power Inductor, size 1040, 22 μH, 4.5 A, 74 mΩ; Manufacturer Part Number: 74437368220; Manufacturer: Wurth Elektronik; Case/Size Code: 1040; DC Resistance Max: 74 mΩ; Performance Rated Current: 4.5 A; Saturation Current @ 10%: 5 A; Saturation Current @ 30%: 10.8 A; Self Resonant Frequency: 7 MHz; Category: Power Inductors; Match Code: WE-LHMI; ComponentLink1Description: Website Link; ComponentLink1URL: https://www.we-online.com/redexpert/article/74437368220?ad; ComponentLink2Description: Datasheet Link; ComponentLink2URL: https://www.we-online.com/redexpert/spec/74437368220?ad; Mount: Surface Mount; Min Operating Temperature: -40 °C; Max Operating Temperature: 125 °C; Packaging: Tape and Reel; Length: 11 mm; Width: 10 mm; Height: 3.8 mm; Inductance: 22 μH
footprint WE-LHMI_1040
simulation model 1040_74437368220_22u
pins: 1, 2

## 74437368330
designator L?, comment 33 μH
WE-LHMI SMT Power Inductor, size 1040, 33 μH, 3.75 A, 112 mΩ; Manufacturer Part Number: 74437368330; Manufacturer: Wurth Elektronik; Case/Size Code: 1040; DC Resistance Max: 112 mΩ; Performance Rated Current: 3.75 A; Saturation Current @ 10%: 3.3 A; Saturation Current @ 30%: 7.4 A; Self Resonant Frequency: 6 MHz; Category: Power Inductors; Match Code: WE-LHMI; ComponentLink1Description: Website Link; ComponentLink1URL: https://www.we-online.com/redexpert/article/74437368330?ad; ComponentLink2Description: Datasheet Link; ComponentLink2URL: https://www.we-online.com/redexpert/spec/74437368330?ad; Mount: Surface Mount; Min Operating Temperature: -40 °C; Max Operating Temperature: 125 °C; Packaging: Tape and Reel; Length: 11 mm; Width: 10 mm; Height: 3.8 mm; Inductance: 33 μH
footprint WE-LHMI_1040
simulation model 1040_74437368330_33u
pins: 1, 2

## 74437368470
designator L?, comment 47 μH
WE-LHMI SMT Power Inductor, size 1040, 47 μH, 2.95 A, 167 mΩ; Manufacturer Part Number: 74437368470; Manufacturer: Wurth Elektronik; Case/Size Code: 1040; DC Resistance Max: 167 mΩ; Performance Rated Current: 2.95 A; Saturation Current @ 10%: 2.55 A; Saturation Current @ 30%: 6.7 A; Self Resonant Frequency: 5 MHz; Category: Power Inductors; Match Code: WE-LHMI; ComponentLink1Description: Website Link; ComponentLink1URL: https://www.we-online.com/redexpert/article/74437368470?ad; ComponentLink2Description: Datasheet Link; ComponentLink2URL: https://www.we-online.com/redexpert/spec/74437368470?ad; Mount: Surface Mount; Min Operating Temperature: -40 °C; Max Operating Temperature: 125 °C; Packaging: Tape and Reel; Length: 11 mm; Width: 10 mm; Height: 3.8 mm; Inductance: 47 μH
footprint WE-LHMI_1040
simulation model 1040_74437368470_47u
pins: 1, 2

## 74437377010
designator L?, comment 1 μH
WE-LHMI SMT Power Inductor, size 1335, 1 μH, 23.5 A, 3.5 mΩ; Manufacturer Part Number: 74437377010; Manufacturer: Wurth Elektronik; Case/Size Code: 1335; DC Resistance Max: 3.5 mΩ; Performance Rated Current: 23.5 A; Saturation Current @ 10%: 15.4 A; Saturation Current @ 30%: 38 A; Self Resonant Frequency: 41 MHz; Category: Power Inductors; Match Code: WE-LHMI; ComponentLink1Description: Website Link; ComponentLink1URL: https://www.we-online.com/redexpert/article/74437377010?ad; ComponentLink2Description: Datasheet Link; ComponentLink2URL: https://www.we-online.com/redexpert/spec/74437377010?ad; Mount: Surface Mount; Min Operating Temperature: -40 °C; Max Operating Temperature: 125 °C; Packaging: Tape and Reel; Length: 13.5 mm; Width: 12.6 mm; Height: 3.3 mm; Inductance: 1 μH
footprint WE-LHMI_1335
simulation model 1335_74437377010_1u
pins: 1, 2

## 74437377015
designator L?, comment 1.5 μH
WE-LHMI SMT Power Inductor, size 1335, 1.5 μH, 17.8 A, 5.5 mΩ; Manufacturer Part Number: 74437377015; Manufacturer: Wurth Elektronik; Case/Size Code: 1335; DC Resistance Max: 5.5 mΩ; Performance Rated Current: 17.8 A; Saturation Current @ 10%: 14.3 A; Saturation Current @ 30%: 33.8 A; Self Resonant Frequency: 30 MHz; Category: Power Inductors; Match Code: WE-LHMI; ComponentLink1Description: Website Link; ComponentLink1URL: https://www.we-online.com/redexpert/article/74437377015?ad; ComponentLink2Description: Datasheet Link; ComponentLink2URL: https://www.we-online.com/redexpert/spec/74437377015?ad; Mount: Surface Mount; Min Operating Temperature: -40 °C; Max Operating Temperature: 125 °C; Packaging: Tape and Reel; Length: 13.5 mm; Width: 12.6 mm; Height: 3.3 mm; Inductance: 1.5 μH
footprint WE-LHMI_1335
simulation model 1335_74437377015_1.5u
pins: 1, 2

## 74437377022
designator L?, comment 2.2 μH
WE-LHMI SMT Power Inductor, size 1335, 2.2 μH, 14.3 A, 8 mΩ; Manufacturer Part Number: 74437377022; Manufacturer: Wurth Elektronik; Case/Size Code: 1335; DC Resistance Max: 8 mΩ; Performance Rated Current: 14.3 A; Saturation Current @ 10%: 14.2 A; Saturation Current @ 30%: 31.2 A; Self Resonant Frequency: 22 MHz; Category: Power Inductors; Match Code: WE-LHMI; ComponentLink1Description: Website Link; ComponentLink1URL: https://www.we-online.com/redexpert/article/74437377022?ad; ComponentLink2Description: Datasheet Link; ComponentLink2URL: https://www.we-online.com/redexpert/spec/74437377022?ad; Mount: Surface Mount; Min Operating Temperature: -40 °C; Max Operating Temperature: 125 °C; Packaging: Tape and Reel; Length: 13.5 mm; Width: 12.6 mm; Height: 3.3 mm; Inductance: 2.2 μH
footprint WE-LHMI_1335
simulation model 1335_74437377022_2.2u
pins: 1, 2

## 74437377033
designator L?, comment 3.3 μH
WE-LHMI SMT Power Inductor, size 1335, 3.3 μH, 12.8 A, 11 mΩ; Manufacturer Part Number: 74437377033; Manufacturer: Wurth Elektronik; Case/Size Code: 1335; DC Resistance Max: 11 mΩ; Performance Rated Current: 12.8 A; Saturation Current @ 10%: 13.3 A; Saturation Current @ 30%: 30.9 A; Self Resonant Frequency: 17 MHz; Category: Power Inductors; Match Code: WE-LHMI; ComponentLink1Description: Website Link; ComponentLink1URL: https://www.we-online.com/redexpert/article/74437377033?ad; ComponentLink2Description: Datasheet Link; ComponentLink2URL: https://www.we-online.com/redexpert/spec/74437377033?ad; Mount: Surface Mount; Min Operating Temperature: -40 °C; Max Operating Temperature: 125 °C; Packaging: Tape and Reel; Length: 13.5 mm; Width: 12.6 mm; Height: 3.3 mm; Inductance: 3.3 μH
footprint WE-LHMI_1335
simulation model 1335_74437377033_3.3u
pins: 1, 2

## 74437377047
designator L?, comment 4.7 μH
WE-LHMI SMT Power Inductor, size 1335, 4.7 μH, 10.6 A, 15 mΩ; Manufacturer Part Number: 74437377047; Manufacturer: Wurth Elektronik; Case/Size Code: 1335; DC Resistance Max: 15 mΩ; Performance Rated Current: 10.6 A; Saturation Current @ 10%: 12 A; Saturation Current @ 30%: 25.1 A; Self Resonant Frequency: 13 MHz; Category: Power Inductors; Match Code: WE-LHMI; ComponentLink1Description: Website Link; ComponentLink1URL: https://www.we-online.com/redexpert/article/74437377047?ad; ComponentLink2Description: Datasheet Link; ComponentLink2URL: https://www.we-online.com/redexpert/spec/74437377047?ad; Mount: Surface Mount; Min Operating Temperature: -40 °C; Max Operating Temperature: 125 °C; Packaging: Tape and Reel; Length: 13.5 mm; Width: 12.6 mm; Height: 3.3 mm; Inductance: 4.7 μH
footprint WE-LHMI_1335
simulation model 1335_74437377047_4.7u
pins: 1, 2

## 744373210010
designator L?, comment 0.1 μH
WE-LHMI SMT Power Inductor, size 4012, 0.1 μH, 14.1 A, 5.5 mΩ; Manufacturer Part Number: 744373210010; Manufacturer: Wurth Elektronik; Case/Size Code: 4012; DC Resistance Max: 5.5 mΩ; Performance Rated Current: 14.1 A; Saturation Current @ 10%: 16.1 A; Saturation Current @ 30%: 29.6 A; Self Resonant Frequency: 365 MHz; Category: Power Inductors; Match Code: WE-LHMI; ComponentLink1Description: Website Link; ComponentLink1URL: https://www.we-online.com/redexpert/article/744373210010?ad; ComponentLink2Description: Datasheet Link; ComponentLink2URL: https://www.we-online.com/redexpert/spec/744373210010?ad; Mount: Surface Mount; Min Operating Temperature: -40 °C; Max Operating Temperature: 125 °C; Packaging: Tape and Reel; Length: 4.45 mm; Width: 4.06 mm; Height: 1 mm; Inductance: 0.1 μH
footprint WE-LHMI_4012
simulation model 4012_744373210010_0.1u
pins: 1, 2

## 744373210022
designator L?, comment 0.22 μH
WE-LHMI SMT Power Inductor, size 4012, 0.22 μH, 11.4 A, 8 mΩ; Manufacturer Part Number: 744373210022; Manufacturer: Wurth Elektronik; Case/Size Code: 4012; DC Resistance Max: 8 mΩ; Performance Rated Current: 11.4 A; Saturation Current @ 10%: 11.1 A; Saturation Current @ 30%: 21.5 A; Self Resonant Frequency: 230 MHz; Category: Power Inductors; Match Code: WE-LHMI; ComponentLink1Description: Website Link; ComponentLink1URL: https://www.we-online.com/redexpert/article/744373210022?ad; ComponentLink2Description: Datasheet Link; ComponentLink2URL: https://www.we-online.com/redexpert/spec/744373210022?ad; Mount: Surface Mount; Min Operating Temperature: -40 °C; Max Operating Temperature: 125 °C; Packaging: Tape and Reel; Length: 4.45 mm; Width: 4.06 mm; Height: 1 mm; Inductance: 0.22 μH
footprint WE-LHMI_4012
simulation model 4012_744373210022_0.22u
pins: 1, 2

## 744373210047
designator L?, comment 0.47 μH
WE-LHMI SMT Power Inductor, size 4012, 0.47 μH, 6.9 A, 20 mΩ; Manufacturer Part Number: 744373210047; Manufacturer: Wurth Elektronik; Case/Size Code: 4012; DC Resistance Max: 20 mΩ; Performance Rated Current: 6.9 A; Saturation Current @ 10%: 6.8 A; Saturation Current @ 30%: 12.5 A; Self Resonant Frequency: 120 MHz; Category: Power Inductors; Match Code: WE-LHMI; ComponentLink1Description: Website Link; ComponentLink1URL: https://www.we-online.com/redexpert/article/744373210047?ad; ComponentLink2Description: Datasheet Link; ComponentLink2URL: https://www.we-online.com/redexpert/spec/744373210047?ad; Mount: Surface Mount; Min Operating Temperature: -40 °C; Max Operating Temperature: 125 °C; Packaging: Tape and Reel; Length: 4.45 mm; Width: 4.06 mm; Height: 1 mm; Inductance: 0.47 μH
footprint WE-LHMI_4012
simulation model 4012_744373210047_0.47u
pins: 1, 2

## 744373240010
designator L?, comment 0.1 μH
WE-LHMI SMT Power Inductor, size 4020, 0.1 μH, 16.5 A, 4 mΩ; Manufacturer Part Number: 744373240010; Manufacturer: Wurth Elektronik; Case/Size Code: 4020; DC Resistance Max: 4 mΩ; Performance Rated Current: 16.5 A; Saturation Current @ 10%: 20.9 A; Saturation Current @ 30%: 37.6 A; Self Resonant Frequency: 323 MHz; Category: Power Inductors; Match Code: WE-LHMI; ComponentLink1Description: Website Link; ComponentLink1URL: https://www.we-online.com/redexpert/article/744373240010?ad; ComponentLink2Description: Datasheet Link; ComponentLink2URL: https://www.we-online.com/redexpert/spec/744373240010?ad; Mount: Surface Mount; Min Operating Temperature: -40 °C; Max Operating Temperature: 125 °C; Packaging: Tape and Reel; Length: 4.45 mm; Width: 4.06 mm; Height: 1.8 mm; Inductance: 0.1 μH
footprint WE-LHMI_4020
simulation model 4020_744373240010_0.1u
pins: 1, 2

## 744373240022
designator L?, comment 0.22 μH
WE-LHMI SMT Power Inductor, size 4020, 0.22 μH, 11.4 A, 7.3 mΩ; Manufacturer Part Number: 744373240022; Manufacturer: Wurth Elektronik; Case/Size Code: 4020; DC Resistance Max: 7.3 mΩ; Performance Rated Current: 11.4 A; Saturation Current @ 10%: 10.8 A; Saturation Current @ 30%: 22.3 A; Self Resonant Frequency: 195 MHz; Category: Power Inductors; Match Code: WE-LHMI; ComponentLink1Description: Website Link; ComponentLink1URL: https://www.we-online.com/redexpert/article/744373240022?ad; ComponentLink2Description: Datasheet Link; ComponentLink2URL: https://www.we-online.com/redexpert/spec/744373240022?ad; Mount: Surface Mount; Min Operating Temperature: -40 °C; Max Operating Temperature: 125 °C; Packaging: Tape and Reel; Length: 4.45 mm; Width: 4.06 mm; Height: 1.8 mm; Inductance: 0.22 μH
footprint WE-LHMI_4020
simulation model 4020_744373240022_0.22u
pins: 1, 2

## 744373240033
designator L?, comment 0.33 μH
WE-LHMI SMT Power Inductor, size 4020, 0.33 μH, 10.5 A, 8.6 mΩ; Manufacturer Part Number: 744373240033; Manufacturer: Wurth Elektronik; Case/Size Code: 4020; DC Resistance Max: 8.6 mΩ; Performance Rated Current: 10.5 A; Saturation Current @ 10%: 11.2 A; Saturation Current @ 30%: 22 A; Self Resonant Frequency: 143 MHz; Category: Power Inductors; Match Code: WE-LHMI; ComponentLink1Description: Website Link; ComponentLink1URL: https://www.we-online.com/redexpert/article/744373240033?ad; ComponentLink2Description: Datasheet Link; ComponentLink2URL: https://www.we-online.com/redexpert/spec/744373240033?ad; Mount: Surface Mount; Min Operating Temperature: -40 °C; Max Operating Temperature: 125 °C; Packaging: Tape and Reel; Length: 4.45 mm; Width: 4.06 mm; Height: 1.8 mm; Inductance: 0.33 μH
footprint WE-LHMI_4020
simulation model 4020_744373240033_0.33u
pins: 1, 2

## 744373240047
designator L?, comment 0.47 μH
WE-LHMI SMT Power Inductor, size 4020, 0.47 μH, 8.7 A, 14 mΩ; Manufacturer Part Number: 744373240047; Manufacturer: Wurth Elektronik; Case/Size Code: 4020; DC Resistance Max: 14 mΩ; Performance Rated Current: 8.7 A; Saturation Current @ 10%: 10.4 A; Saturation Current @ 30%: 19.6 A; Self Resonant Frequency: 122 MHz; Category: Power Inductors; Match Code: WE-LHMI; ComponentLink1Description: Website Link; ComponentLink1URL: https://www.we-online.com/redexpert/article/744373240047?ad; ComponentLink2Description: Datasheet Link; ComponentLink2URL: https://www.we-online.com/redexpert/spec/744373240047?ad; Mount: Surface Mount; Min Operating Temperature: -40 °C; Max Operating Temperature: 125 °C; Packaging: Tape and Reel; Length: 4.45 mm; Width: 4.06 mm; Height: 1.8 mm; Inductance: 0.47 μH
footprint WE-LHMI_4020
simulation model 4020_744373240047_0.47u
pins: 1, 2

## 744373240056
designator L?, comment 0.56 μH
WE-LHMI SMT Power Inductor, size 4020, 0.56 μH, 7.9 A, 16 mΩ; Manufacturer Part Number: 744373240056; Manufacturer: Wurth Elektronik; Case/Size Code: 4020; DC Resistance Max: 16 mΩ; Performance Rated Current: 7.9 A; Saturation Current @ 10%: 6.7 A; Saturation Current @ 30%: 13 A; Self Resonant Frequency: 104 MHz; Category: Power Inductors; Match Code: WE-LHMI; ComponentLink1Description: Website Link; ComponentLink1URL: https://www.we-online.com/redexpert/article/744373240056?ad; ComponentLink2Description: Datasheet Link; ComponentLink2URL: https://www.we-online.com/redexpert/spec/744373240056?ad; Mount: Surface Mount; Min Operating Temperature: -40 °C; Max Operating Temperature: 125 °C; Packaging: Tape and Reel; Length: 4.45 mm; Width: 4.06 mm; Height: 1.8 mm; Inductance: 0.56 μH
footprint WE-LHMI_4020
simulation model 4020_744373240056_0.56u
pins: 1, 2

## 744373240068
designator L?, comment 0.68 μH
WE-LHMI SMT Power Inductor, size 4020, 0.68 μH, 7.3 A, 19 mΩ; Manufacturer Part Number: 744373240068; Manufacturer: Wurth Elektronik; Case/Size Code: 4020; DC Resistance Max: 19 mΩ; Performance Rated Current: 7.3 A; Saturation Current @ 10%: 7.1 A; Saturation Current @ 30%: 14 A; Self Resonant Frequency: 90 MHz; Category: Power Inductors; Match Code: WE-LHMI; ComponentLink1Description: Website Link; ComponentLink1URL: https://www.we-online.com/redexpert/article/744373240068?ad; ComponentLink2Description: Datasheet Link; ComponentLink2URL: https://www.we-online.com/redexpert/spec/744373240068?ad; Mount: Surface Mount; Min Operating Temperature: -40 °C; Max Operating Temperature: 125 °C; Packaging: Tape and Reel; Length: 4.45 mm; Width: 4.06 mm; Height: 1.8 mm; Inductance: 0.68 μH
footprint WE-LHMI_4020
simulation model 4020_744373240068_0.68u
pins: 1, 2